# Altium footprint library Transformers, inductors.PcbLib: 6 footprints
Each footprint in its own frame and in the unit in brackets; x right, y up, seen from the top. Pads: shape width x height; smd on the part's side, far side on the other; paste and mask are expansions set on the pad; w line width, h text height; cw(c..) or ccw(c..) is an arc to the next point about the centre after c.
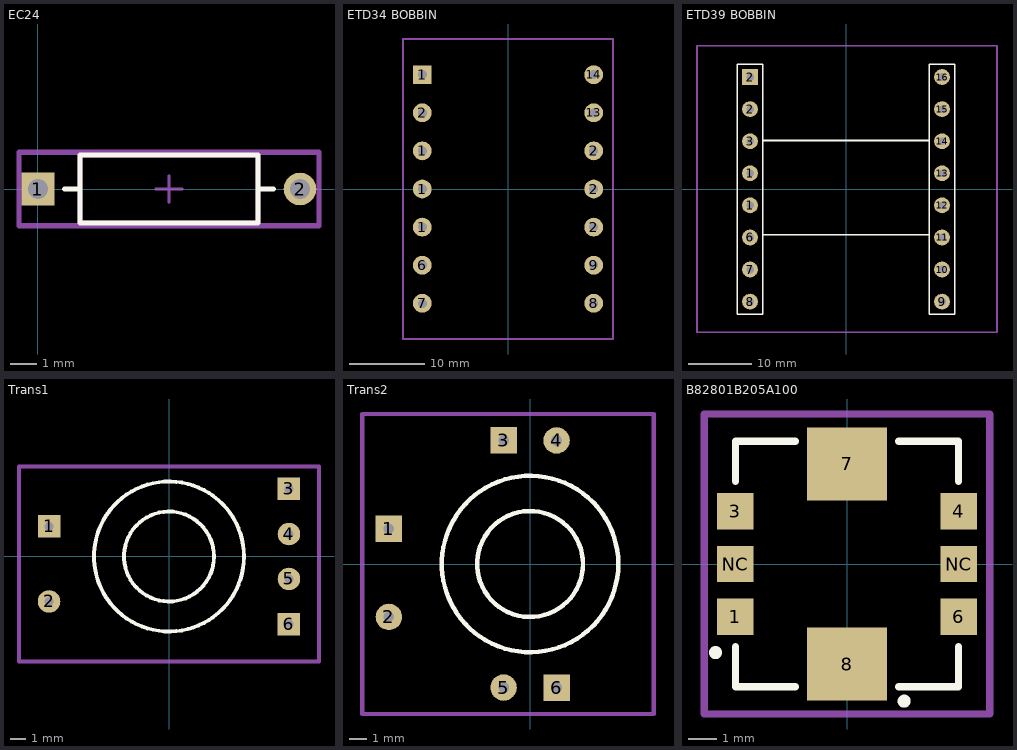
[diagram p0: the footprints below, top view; thin cyan lines are the x and y axes]

## EC24 [mm]
pads (2):
  rect 1.25x1.25 hole 0.75 paste-1000 mask+0: 1(0,0)
  round 1.25 hole 0.75 paste-1000 mask+0: 2(10,0)
Top Overlay:
  lines w0.2: 1.025,0 1.6,0 ; 8.4,0 8.975,0 ; 1.6,-1.3 1.6,1.3 8.4,1.3 8.4,-1.3 1.6,-1.3
Top Component Center:
  lines w0.1: 4.5,0 5.5,0 ; 5,-0.5 5,0.5
Top Assembly:
  lines w0.2: -0.725,-1.4 -0.725,1.4 10.725,1.4 10.725,-1.4 -0.725,-1.4
  text ".Designator" at 5,0.188 h1
Top 3D Body:
  lines w0.2: 1.6,-1.3 1.6,1.3 8.4,1.3 8.4,-1.3 1.6,-1.3
Top Courtyard:
  lines w0.2: -0.725,-1.4 -0.725,1.4 10.725,1.4 10.725,-1.4 -0.725,-1.4
3D body "Res_Yageo_MF0207FTE52-10K_eec.STEP": height 0.25, standoff 0, extent -0.725,-1.4 10.725,1.4

## ETD34 BOBBIN [mm]
pads (14):
  round 2.5 hole 1.2: 1(-11.43,-5.08) 1(-11.43,0) 1(-11.43,5.08) 2(-11.43,10.16) 2(11.43,-5.08) 2(11.43,0) 2(11.43,5.08) 6(-11.43,-10.16) 7(-11.43,-15.24) 8(11.43,-15.24) 9(11.43,-10.16) 13(11.43,10.16) 14(11.43,15.24)
  rect 2.5x2.5 hole 1.2: 1(-11.43,15.24)
Top Assembly:
  lines w0.254: -14,-20 14,-20 14,20 -14,20 -14,-20
  text ".Designator" at 0.254,0.762 h1.52
Top Courtyard:
  lines w0.254: -14,-20 14,-20 14,20 -14,20 -14,-20
3D body "Transformer ETD34.stp": height 46.37, standoff -2.5, extent -13.625,-19.8 13.625,19.8

## ETD39 BOBBIN [mm]
pads (16):
  round 2.5 hole 1.2: 1(-15.2,-2.54) 1(-15.2,2.54) 2(-15.2,12.7) 3(-15.2,7.62) 6(-15.2,-7.62) 7(-15.2,-12.7) 8(-15.2,-17.78) 9(15.2,-17.78) 10(15.2,-12.7) 11(15.2,-7.62) 12(15.2,-2.54) 13(15.2,2.54) 14(15.2,7.62) 15(15.2,12.7) 16(15.2,17.78)
  rect 2.5x2.5 hole 1.2: 2(-15.2,17.78)
Top Overlay:
  lines w0.254: -13.2,-7.17 13.1,-7.17 ; -13.2,7.73 13.1,7.73 ; -17.2,-19.78 -17.2,19.78 -13.2,19.78 -13.2,-19.78 -17.2,-19.78 ; 13.2,-19.78 17.2,-19.78 17.2,19.78 13.2,19.78 13.2,-19.78
Top Assembly:
  lines w0.254: -23.6,-22.6 23.9,-22.6 23.9,22.7 -23.6,22.7 -23.6,-22.6
  text ".Designator" at -2.246,1.042 h1.52
Top Courtyard:
  lines w0.254: -23.6,-22.6 23.9,-22.6 23.9,22.7 -23.6,22.7 -23.6,-22.6
3D body "ETD39 Horizontal v7.step": height 36.24, standoff -3.8, extent -23.3,-22.2 23.5,22.4

## Trans1 [mm]
pads (6):
  rect 1.5x1.5 hole 0.6: 1(-8,2) 3(8,4.5) 6(8,-4.5)
  round 1.5 hole 0.6: 2(-8,-3) 4(8,1.5) 5(8,-1.5)
Top Overlay:
  circle w0.254: c0,0 r5
  circle w0.254: c0,0 r3
Top Courtyard:
  lines w0.254: -10,-7 10,-7 10,6 -10,6 -10,-7

## Trans2 [mm]
pads (6):
  rect 1.5x1.5 hole 0.6: 1(-8,2) 3(-1.5,7) 6(1.5,-7)
  round 1.5 hole 0.6: 2(-8,-3) 4(1.5,7) 5(-1.5,-7)
Top Overlay:
  circle w0.254: c0,0 r3
  circle w0.254: c0,0 r5
Top Courtyard:
  lines w0.254: -9.5,-8.5 7,-8.5 7,8.5 -9.5,8.5 -9.5,-8.5

## В82801В205А100 [mm]
pads (8):
  rect 1.28x1.27 smd: 1(-3.91,-1.85) 3(-3.91,1.85) 4(3.91,1.85) 6(3.91,-1.85) NC(-3.91,0) NC(3.91,0)
  rect 2.8x2.55 smd: 7(0,3.5) 8(0,-3.5)
Top Overlay:
  circle w0.254: c2,-4.8 r0.1
  circle w0.254: c-4.6,-3.1 r0.1
  lines w0.254: -3.9,-2.9 -3.9,-4.3 -1.8,-4.3 ; -3.9,2.9 -3.9,4.3 -1.8,4.3 ; 1.8,-4.3 3.9,-4.3 3.9,-2.9 ; 1.8,4.3 3.9,4.3 3.9,2.9
Top Assembly:
  lines w0.254: -5,-5.25 5,-5.25 5,5.25 -5,5.25 -5,-5.25
  text ".Designator" at -2.446,-0.138 h1.52
Top Courtyard:
  lines w0.254: -5,-5.25 5,-5.25 5,5.25 -5,5.25 -5,-5.25
3D body "B82801B_EE5.5_MAX_public_TDK-PC.step": height 5.06, standoff 0.01, extent -4.077,-3.05 4.077,3.05